# Altium integrated library LT1761ES5-5#TRMPBF.IntLib: 1 symbol
Pins are listed as number, name and electrical type; pins without a type are passive.

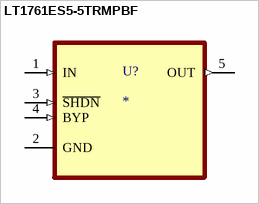
[diagram p0: symbol LT1761ES5-5TRMPBF]

## LT1761ES5-5TRMPBF
designator U?
100mA, Low Noise, LDO Micropower Regulators; MP: LT1761ES5-5TRMPBF; Package: None; Price: None; Value: *; Availability: Unavailable
footprint SOT95P280X100-5N
pins: 1 IN (in), 2 GND, 3 ~{SHDN} (in), 4 BYP (in), 5 OUT (out)